# EAGLE library part LTC3765 (library PowerProducts)
LT-Spice library generated with : ltspice.ulp from: D:/Program Files (x86)/LTC/LTspiceIV/lib/sym/PowerProducts/LTC3766*.asy at 07.10.2012 18:32:35
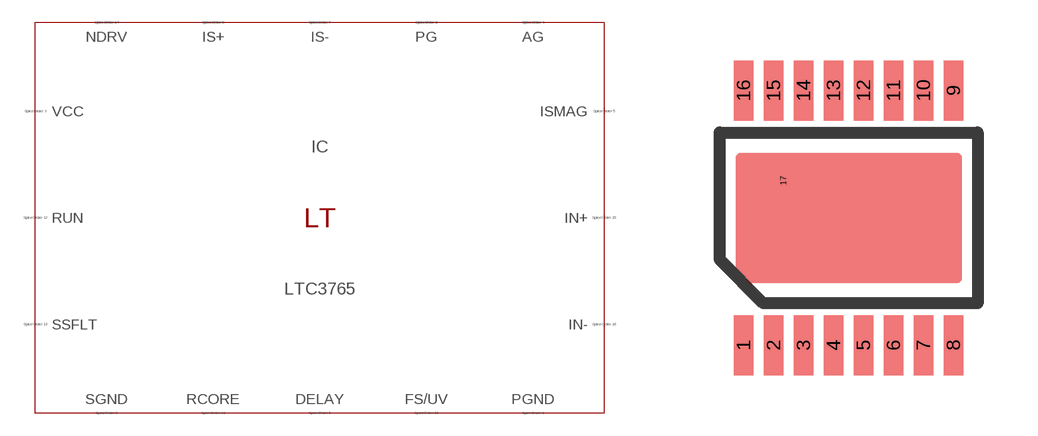
[diagram p315: symbol with the pads of MSOP16(MSE); footprint MSOP16(MSE)]

Designator prefix IC

## LTC3765 (SPICEMODEL: LTC3765.sub; SPICEPREFIX: X; VALUE2: LTC3765)  [MSOP16(MSE)]
1  PGND  pas
2  PG  pas
3  VCC  pas
4  AG  pas
5  ISMAG  pas
6  DELAY  pas
7  IS-  pas
8  IS+  pas
9  SGND  pas
10  FS/UV  pas
11  RCORE  pas
12  RUN  pas
13  SSFLT  pas
14  NDRV  pas
15  IN+  pas
16  IN-  pas
17  SGND  pas

## Footprint MSOP16(MSE) (pad centres in mm)
Package generated from: MSOP16(MSE).asc (!PADS-POWERPCB-V9.3-BASIC! DESIGN DATABASE ASCII FILE 1.0) with :import-pads-powerpcb-v5.ulp Version 1.0.1 at 04.10.2012 14:11:19
smd 0.495 x 1.5: 1 -2.625,-3.188; 2 -1.875,-3.188; 3 -1.125,-3.188; 4 -0.375,-3.188; 5 0.375,-3.188; 6 1.125,-3.188; 7 1.875,-3.188; 8 2.625,-3.188; 9 2.625,3.188; 10 1.875,3.188; 11 1.125,3.188; 12 0.375,3.188; 13 -0.375,3.188; 14 -1.125,3.188; 15 -1.875,3.188; 16 -2.625,3.188
smd 0 x 0.525: 17 -1.635,0.93